# EAGLE library part *CA9538 (library micro-texas-instruments)
8-bit I2C-bus and SMBus low power I/O port with interrupt Source: www.nxp.com .. PCA9534_3.pdf
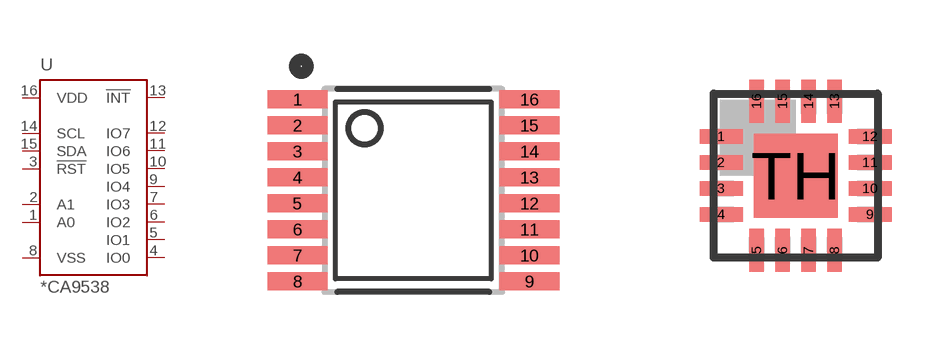
[diagram p6: symbol with the pads of TSSOP16; footprints TSSOP16, HVQFN16(SOT629-1)]

Designator prefix U

## PCA9538PW (MFG: NXP; MPN: PCA9538PW,118), TCA9538PW (MFG: Texas Instruments; MPN: TCA9538PWR)  [TSSOP16]
1  A0  in
2  A1  in
3  !RST  in
4  IO0
5  IO1
6  IO2
7  IO3
8  VSS  sup
9  IO4
10  IO5
11  IO6
12  IO7
13  !INT  oc
14  SCL  in
15  SDA
16  VDD  sup

## PCA9538BS (MFG: NXP; MPN: PCA9538BS,118)  [HVQFN16(SOT629-1)]
1  !RST  in
2  IO0
3  IO1
4  IO2
5  IO3
6  VSS  sup
7  IO4
8  IO5
9  IO6
10  IO7
11  !INT  oc
12  SCL  in
13  SDA
14  VDD  sup
15  A0  in
16  A1  in
TH  VSS  sup

## PCA9538APW (MFG: NXP; MPN: PCA9538APWJ)  [TSSOP16]
Pads as for TSSOP16

## TCA9538DB (MFG: Texas Instruments; MPN: TCA9538DBR)  [SO16(DB/R-PDSO-G16)]
Pads as for TSSOP16

## PCA9538D (MFG: NXP; MPN: PCA9538D)  [SO16(SOT162-1)]
Pads as for TSSOP16

## PCA9538PW/Q900 (MFG: NXP; MPN: PCA9538PW/Q900,118; VALUE: PCA9538)  [TSSOP16]
Pads as for TSSOP16

## PCA9538ABS (MFG: NXP; MPN: PCA9538ABSHP)  [HVQFN16(SOT629-1)]
Pads as for HVQFN16(SOT629-1)

## Footprint TSSOP16 (pad centres in mm)
TSSOP16: plastic thin shrink small outline package; 16 leads; body width 4.4 mm SOT403-1 / PW0016A Source: PCA9534_3.pdf
smd 1.5 x 0.45: 1 -2.9,2.275; 2 -2.9,1.625; 3 -2.9,0.975; 4 -2.9,0.325; 5 -2.9,-0.325; 6 -2.9,-0.975; 7 -2.9,-1.625; 8 -2.9,-2.275; 9 2.9,-2.275; 10 2.9,-1.625; 11 2.9,-0.975; 12 2.9,-0.325; 13 2.9,0.325; 14 2.9,0.975; 15 2.9,1.625; 16 2.9,2.275

## Footprint HVQFN16(SOT629-1) (pad centres in mm)
HVQFN16: plastic thermal enhanced very thin quad flat package; no leads; 16 terminals; body 4 x 4 x 0.85 mm SOT629-1 SOURCE: https://www.nxp.com/docs/en/package-information/SOT629-1.pdf
smd 1.075 x 0.355: 1 -1.863,0.975; 2 -1.863,0.325; 3 -1.863,-0.325; 4 -1.863,-0.975; 9 1.863,-0.975; 10 1.863,-0.325; 11 1.863,0.325; 12 1.863,0.975
smd 0.355 x 1.075: 5 -0.975,-1.863; 6 -0.325,-1.863; 7 0.325,-1.863; 8 0.975,-1.863; 13 0.975,1.863; 14 0.325,1.863; 15 -0.325,1.863; 16 -0.975,1.863
smd 2.1 x 2.1: TH 0,0

## Footprint SO16(DB/R-PDSO-G16) (pad centres in mm)
TI Plastic Small Outline (SSOP DB Variant)DB R-PDSO-G16 Source: https://www.ti.com/lit/pdf/MPDS507
smd 1.85 x 0.45: 1 -3.5,2.275; 2 -3.5,1.625; 3 -3.5,0.975; 4 -3.5,0.325; 5 -3.5,-0.325; 6 -3.5,-0.975; 7 -3.5,-1.625; 8 -3.5,-2.275; 9 3.5,-2.275; 10 3.5,-1.625; 11 3.5,-0.975; 12 3.5,-0.325; 13 3.5,0.325; 14 3.5,1.625; 15 3.5,0.975; 16 3.5,2.275

## Footprint SO16(SOT162-1) (pad centres in mm)
Small Outline Package SO16: plastic small outline package; 16 leads; body width 7.5 mm
smd 2.4 x 0.8: 1 -4.4,4.495; 8 -4.4,-4.495; 9 4.4,-4.495; 16 4.4,4.495
smd 2.4 x 0.7: 2 -4.4,3.175; 3 -4.4,1.905; 4 -4.4,0.635; 5 -4.4,-0.635; 6 -4.4,-1.905; 7 -4.4,-3.175; 10 4.4,-3.175; 11 4.4,-1.905; 12 4.4,-0.635; 13 4.4,0.635; 14 4.4,1.905; 15 4.4,3.175